# Altium footprint library transistor-power.PCBLIB: 89 footprints (part 5 of 6)
Each footprint in its own frame and in the unit in brackets; x right, y up, seen from the top. Pads: shape width x height; smd on the part's side, far side on the other; paste and mask are expansions set on the pad; w line width, h text height; cw(c..) or ccw(c..) is an arc to the next point about the centre after c.
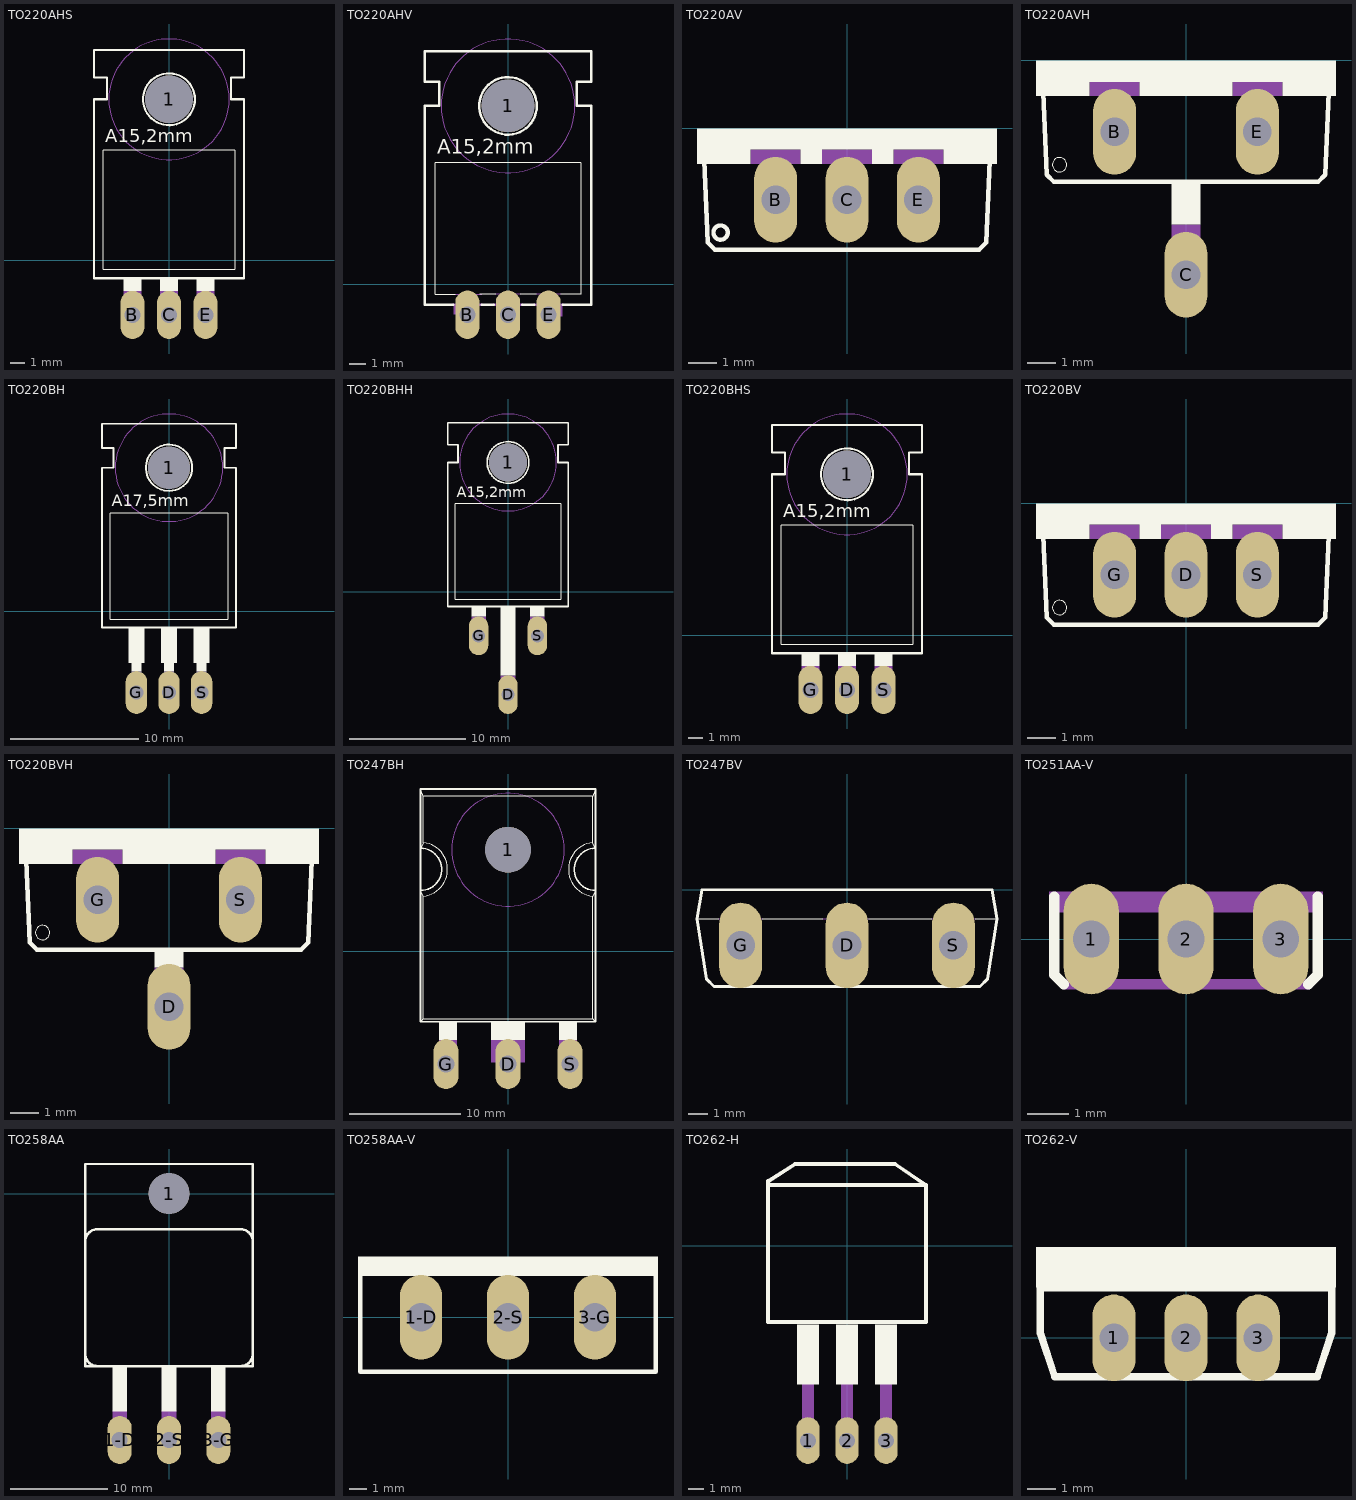
[diagram p4: the footprints below, top view; thin cyan lines are the x and y axes]

## TO220AHS [mil]
pads (4):
  round 130 hole 130: 1(0,440)
  oval 66x132 hole 44: B(-100,-150) C(0,-150) E(100,-150)
Top Overlay:
  circle w6: c0,440 r71
  rectangle: -125,-85 -75,-50
  rectangle: -25,-85 25,-50
  rectangle: 75,-85 125,-50
  lines w2: -180,-25 180,-25 180,300 -180,300 -180,-25
  lines w6: -205,-50 205,-50 205,440 170,440 170,500 205,500 205,575 -205,575 -205,500 -170,500 -170,440 -205,440 -205,-50
  text "A15,2mm" at -175,310 h62
Mechanical 9:
  circle w0: c0,440 r165
Mechanical 10:
  circle w0: c0,440 r165
Mechanical 16:
  rectangle: -125,-150 -75,-85
  rectangle: -25,-150 25,-85
  rectangle: 75,-150 125,-85

## TO220AHV [mil]
pads (4):
  round 130 hole 130: 1(0,440)
  oval 60x120 hole 40: B(-100,-75) C(0,-75) E(100,-75)
Top Overlay:
  circle w6: c0,440 r71
  lines w2: -130,-25 -180,-25 -180,300 180,300 180,-25 130,-25 ; -70,-25 -30,-25 ; 30,-25 70,-25
  lines w6: -135,-50 -205,-50 -205,440 -170,440 -170,500 -205,500 -205,575 205,575 205,500 170,500 170,440 205,440 205,-50 135,-50 ; -65,-50 -35,-50 ; 35,-50 65,-50
  text "A15,2mm" at -175,310 h62
Mechanical 9:
  circle w0: c0,440 r165
Mechanical 10:
  circle w0: c0,440 r165
Mechanical 16:
  rectangle: -30,-80 30,-50
  rectangle: 80,-80 135,-50
  rectangle: -135,-75 -80,-50
  lines w2: -130,-25 -65,-25 ; -30,-25 30,-25 ; 70,-25 130,-25
  lines w6: -135,-50 -65,-50 ; -35,-50 35,-50 ; 65,-50 135,-50

## TO220AV [mil]
pads (3):
  oval 60x120 hole 40: B(-100,-100) C(0,-100) E(100,-100)
Top Overlay:
  circle w6: c-177,-146 r10
  rectangle: -210,-30 210,0
  rectangle: -210,-50 -135,-30
  rectangle: -65,-50 -35,-30
  rectangle: 35,-50 65,-30
  rectangle: 135,-50 210,-30
  lines w6: -200,-45 -195,-160 -185,-170 185,-170 195,-160 200,-45
Mechanical 16:
  rectangle: -135,-50 -65,-30
  rectangle: -35,-50 35,-30
  rectangle: 65,-50 135,-30

## TO220AVH [mil]
pads (3):
  oval 60x120 hole 40: B(-100,-100) C(0,-300) E(100,-100)
Top Overlay:
  circle w0: c-177,-146 r10
  rectangle: -210,-30 210,0
  rectangle: -210,-50 -135,-30
  rectangle: 135,-50 210,-30
  rectangle: -20,-230 20,-170
  rectangle: -65,-50 65,-30
  lines w6: -200,-45 -195,-160 -185,-170 185,-170 195,-160 200,-45
Mechanical 16:
  rectangle: -135,-50 -65,-30
  rectangle: 65,-50 135,-30
  rectangle: -20,-300 20,-230

## TO220BH [mil]
pads (4):
  round 130 hole 130: 1(0,440)
  oval 66x132 hole 44: D(0,-250) G(-100,-250) S(100,-250)
Top Overlay:
  circle w6: c0,440 r71
  rectangle: 85,-185 115,-160
  rectangle: -15,-185 15,-160
  rectangle: -115,-185 -85,-160
  rectangle: -125,-160 -75,-50
  rectangle: -25,-160 25,-50
  rectangle: 75,-160 125,-50
  lines w2: -180,-25 180,-25 180,300 -180,300 -180,-25
  lines w6: -205,-50 205,-50 205,440 170,440 170,500 205,500 205,575 -205,575 -205,500 -170,500 -170,440 -205,440 -205,-50
  text "A17,5mm" at -175,310 h62
Mechanical 9:
  circle w0: c0,440 r165
Mechanical 10:
  circle w0: c0,440 r165
Mechanical 16:
  rectangle: -115,-260 -85,-185
  rectangle: -15,-260 15,-185
  rectangle: 85,-260 115,-185

## TO220BHH [mil]
pads (4):
  round 130 hole 130: 1(0,440)
  oval 66x132 hole 44: D(0,-350) G(-100,-150) S(100,-150)
Top Overlay:
  circle w6: c0,440 r71
  rectangle: -125,-85 -75,-50
  rectangle: 75,-85 125,-50
  rectangle: -25,-285 25,-50
  lines w2: -180,-25 180,-25 180,300 -180,300 -180,-25
  lines w6: -205,-50 205,-50 205,440 170,440 170,500 205,500 205,575 -205,575 -205,500 -170,500 -170,440 -205,440 -205,-50
  text "A15,2mm" at -175,310 h62
Mechanical 9:
  circle w0: c0,440 r165
Mechanical 10:
  circle w0: c0,440 r165
Mechanical 16:
  rectangle: -125,-150 -75,-85
  rectangle: -25,-350 25,-285
  rectangle: 75,-150 125,-85

## TO220BHS [mil]
pads (4):
  round 130 hole 130: 1(0,440)
  oval 66x132 hole 44: D(0,-150) G(-100,-150) S(100,-150)
Top Overlay:
  circle w6: c0,440 r71
  rectangle: -125,-85 -75,-50
  rectangle: -25,-85 25,-50
  rectangle: 75,-85 125,-50
  lines w2: -180,-25 180,-25 180,300 -180,300 -180,-25
  lines w6: -205,-50 205,-50 205,440 170,440 170,500 205,500 205,575 -205,575 -205,500 -170,500 -170,440 -205,440 -205,-50
  text "A15,2mm" at -175,310 h62
Mechanical 9:
  circle w0: c0,440 r165
Mechanical 10:
  circle w0: c0,440 r165
Mechanical 16:
  rectangle: -125,-150 -75,-85
  rectangle: -25,-150 25,-85
  rectangle: 75,-150 125,-85

## TO220BV [mil]
pads (3):
  oval 60x120 hole 40: D(0,-100) G(-100,-100) S(100,-100)
Top Overlay:
  circle w0: c-177,-146 r10
  rectangle: -210,-30 210,0
  rectangle: -210,-50 -135,-30
  rectangle: -65,-50 -35,-30
  rectangle: 35,-50 65,-30
  rectangle: 135,-50 210,-30
  lines w6: -200,-45 -195,-160 -185,-170 185,-170 195,-160 200,-45
Mechanical 16:
  rectangle: -135,-50 -65,-30
  rectangle: -35,-50 35,-30
  rectangle: 65,-50 135,-30

## TO220BVH [mil]
pads (3):
  oval 60x120 hole 40: D(0,-250) G(-100,-100) S(100,-100)
Top Overlay:
  circle w0: c-177,-146 r10
  rectangle: -210,-30 210,0
  rectangle: -210,-50 -135,-30
  rectangle: 135,-50 210,-30
  rectangle: -65,-50 65,-30
  rectangle: -20,-195 20,-170
  lines w6: -200,-45 -195,-160 -185,-170 185,-170 195,-160 200,-45
Mechanical 16:
  rectangle: -135,-50 -65,-30
  rectangle: 65,-50 135,-30
  rectangle: -20,-250 20,-195

## TO247BH [mil]
pads (4):
  round 162 hole 162: 1(0,360)
  oval 88.5x177 hole 59: D(0,-400) G(-220,-400) S(220,-400)
Top Overlay:
  circle w6: c0,360 r75
  rectangle: 180,-315 245,-250
  rectangle: -60,-315 60,-250
  rectangle: -245,-315 -180,-250
  lines w2: -310,-250 -300,-240 ; -310,215 -300,195 ; -310,365 -300,385 ; -310,575 -300,550 ; 310,-250 300,-240 ; 310,215 300,195 ; 310,365 300,385 ; 310,575 300,550 ; -300,-240 300,-240 ; -300,-240 -300,195 ; -300,195 ccw(c-310,290) -300,385 ; -300,385 -300,550 ; -300,550 300,550 ; 300,-240 300,195 ; 300,195 cw(c310,290) 300,385 ; 300,385 300,550
  lines w6: -310,215 -310,-250 310,-250 310,215 ; -310,215 -310,365 ; -310,215 ccw(c-310,290) -310,365 ; -310,365 -310,575 310,575 310,365 ; 310,215 cw(c310,290) 310,365 ; 310,215 310,365
Mechanical 9:
  circle w0: c0,360 r200
Mechanical 10:
  circle w0: c0,360 r200
Mechanical 16:
  rectangle: -245,-395 -180,-315
  rectangle: -245,-415 -195,-395
  rectangle: -60,-395 60,-315
  rectangle: -25,-415 25,-395
  rectangle: 180,-395 245,-315
  rectangle: 195,-415 245,-395

## TO247BV [mil]
pads (3):
  oval 88.5x177 hole 59: D(0,-115) G(-220,-115) S(220,-115)
Top Overlay:
  lines w2: -310,-60 -265,-60 ; -175,-60 -50,-60 ; 45,-60 175,-60 ; 265,-60 310,-60
  lines w6: -310,-60 -290,-185 -275,-200 275,-200 290,-185 310,-60 300,0 -300,0 -310,-60
Mechanical 16:
  lines w2: -265,-60 -175,-60 ; -50,-60 45,-60 ; 175,-60 265,-60

## TO251AA-V [mil]
pads (3):
  oval 52.5x105 hole 35: 1(-90,0) 2(0,0) 3(90,0)
Top Overlay:
  lines w10: -125,40 -125,-34 -116,-43 ; 116,-43 125,-34 125,40
Mechanical 16:
  rectangle: -130,25 130,45
  lines w10: -115,-43 -100,-43 ; -100,23 -100,-43 ; 100,23 100,-43 ; 116,-43 100,-43 ; -100,-43 100,-43

## TO258AA [mil]
pads (4):
  round 165 hole 165: 1(0,0)
  oval 97.5x195 hole 65: 1-D(-200,-1000) 2-S(0,-1000) 3-G(200,-1000)
Top Overlay:
  rectangle: -230,-885 -170,-700
  rectangle: -30,-885 30,-700
  rectangle: 170,-885 230,-700
  lines w10: -340,-650 -340,-195 ; -340,-650 -340,-700 -290,-700 ; -340,-650 ccw(c-290,-650) -290,-700 ; -340,-195 -340,120 340,120 340,-195 ; -340,-195 cw(c-290,-195) -290,-145 290,-145 cw(c290,-195) 340,-195 ; -290,-700 290,-700 ; 290,-700 340,-700 340,-650 ; 290,-700 ccw(c290,-650) 340,-650 ; 340,-650 340,-195
Mechanical 16:
  rectangle: -230,-1010 -170,-880
  rectangle: -30,-1010 30,-880
  rectangle: 170,-1010 230,-880

## TO258AA-V [mil]
pads (3):
  oval 97.5x195 hole 65: 1-D(-200,0) 2-S(0,0) 3-G(200,0)
Top Overlay:
  rectangle: -345,95 345,140
  lines w10: -340,-125 -340,120 340,120 340,-125 -340,-125

## TO262-H [mil]
pads (3):
  oval 60x120 hole 40: 1(-100,-500) 2(0,-500) 3(100,-500)
Top Overlay:
  rectangle: -128,-356 -72,-300
  rectangle: -128,-300 -72,-202
  rectangle: 72,-300 128,-202
  rectangle: -28,-300 28,-202
  rectangle: -28,-356 28,-300
  rectangle: 72,-356 128,-300
  lines w10: -202,155 -202,165 -133,209 123,209 202,155 ; -202,155 -202,-196 202,-196 202,155 ; -202,155 202,155
Mechanical 16:
  rectangle: -115,-510 -85,-355
  rectangle: -15,-510 15,-355
  rectangle: 85,-510 115,-355

## TO262-V [mil]
pads (3):
  oval 60x120 hole 40: 1(-100,0) 2(0,0) 3(100,0)
Top Overlay:
  rectangle: -208,70 208,126
  lines w10: -202,6 -202,69 202,69 202,6 182,-54 -182,-54 -202,6